# EAGLE library part SA23-12 (library Kingbright)
Display 7 segmenti 56,9 mm anodo comune
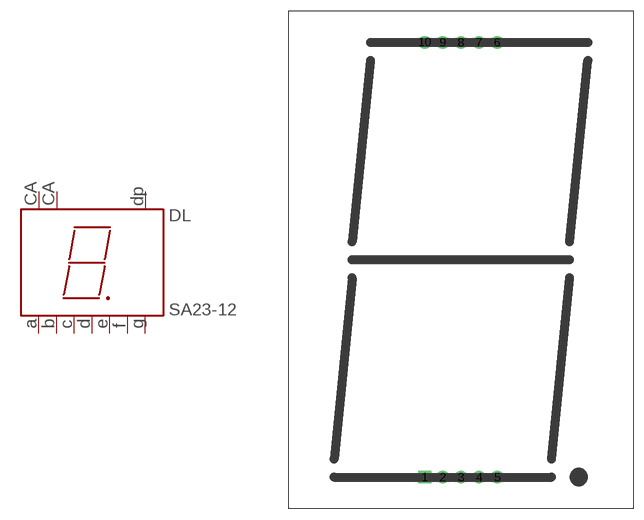
[diagram p1: symbol with the pads of SA23-12; footprint SA23-12]

Designator prefix DL

## SA23-12  [SA23-12]
1  CA  pas
2  E  pas
3  D  pas
4  C  pas
5  CA  pas
6  B  pas
7  A  pas
8  DP  pas
9  F  pas
10  G  pas

## Footprint SA23-12 (pad centres in mm)
drill 1.016 pad 1.778 square: 1 -5.08,-30.48
drill 1.016 pad 1.778 round: 2 -2.54,-30.48; 3 0,-30.48; 4 2.54,-30.48; 5 5.08,-30.48; 6 5.08,30.48; 7 2.54,30.48; 8 0,30.48; 9 -2.54,30.48; 10 -5.08,30.48